# EAGLE library part AT30TSE75XA (library atmel)
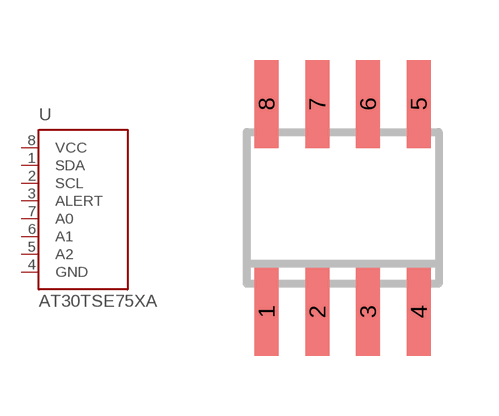
[diagram p91: symbol with the pads of AT30TSE75XA; footprint AT30TSE75XA]

Designator prefix -

## AT30TSE75XA  [AT30TSE75XA]
1  SDA
2  SCL
3  ALERT
4  GND  pwr
5  A2
6  A1
7  A0
8  VCC  pwr

## Footprint AT30TSE75XA (pad centres in mm)
smd 0.6 x 2.2: 1 -1.905,-2.6; 2 -0.635,-2.6; 3 0.635,-2.6; 4 1.905,-2.6; 5 1.905,2.6; 6 0.635,2.6; 7 -0.635,2.6; 8 -1.905,2.6